# Altium schematic symbol library APM32F030K8T6核心板原理图库.SchLib: 7 symbols
Pins are listed as number, name and electrical type; pins without a type are passive.

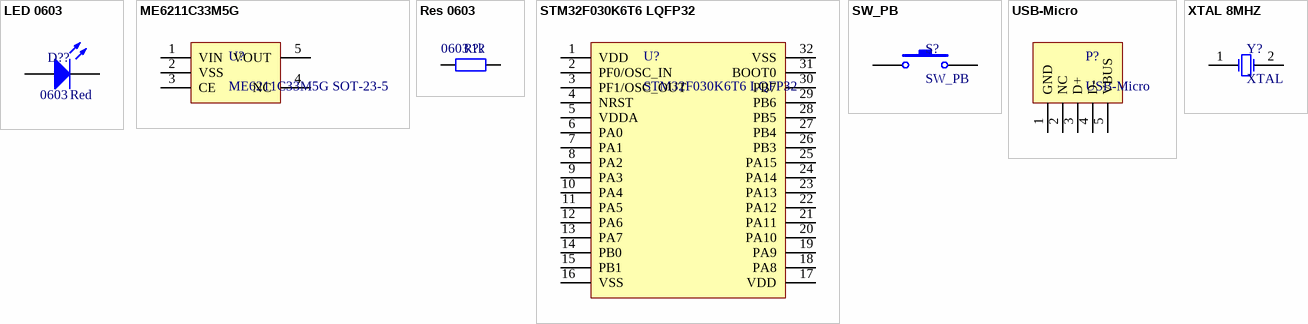
[diagram p0: symbols LED 0603 to XTAL 8MHZ]

## LED 0603
designator D??  value Red  Footprint: 0603  (hidden comment: LED 0603)
footprint 0603-LED-G
pins: 1 A, 2 K

## ME6211C33M5G
designator U?, comment ME6211C33M5G SOT-23-5
footprint SOT-23-5
pins: 1 VIN (power), 2 VSS (power), 3 CE (power), 4 NC (power), 5 VOUT (power)

## Res 0603
designator R??  value 1k  Footprint: 0603  (hidden comment: Res 0603)
Resistor 0603
footprint R0603-R/C-BY
pins: 1, 2

## STM32F030K6T6 LQFP32
designator U?
footprint QFP32_M (32-Pin Quad Flat Pack 0.8 mm Pitch, IPC Low Density)
pins: 1 VDD (power), 2 PF0/OSC_IN (power), 3 PF1/OSC_OUT (power), 4 NRST (power), 5 VDDA (power), 6 PA0 (power), 7 PA1 (power), 8 PA2 (power), 9 PA3 (power), 10 PA4 (power), 11 PA5 (power), 12 PA6 (power), 13 PA7 (power), 14 PB0 (power), 15 PB1 (power), 16 VSS (power), 17 VDD (power), 18 PA8 (power), 19 PA9 (power), 20 PA10 (power), 21 PA11 (power), 22 PA12 (power), 23 PA13 (power), 24 PA14 (power), 25 PA15 (power), 26 PB3 (power), 27 PB4 (power), 28 PB5 (power), 29 PB6 (power), 30 PB7 (power), 31 BOOT0 (power), 32 VSS (power)

## SW_PB
designator S?
footprint SW-2Pin
pins: 1, 2

## USB-Micro
designator P?
footprint USB Micro
pins: 1 GND (power), 2 NC (power), 3 D+ (power), 4 D- (power), 5 VBUS (power)

## XTAL 8MHZ
designator Y?, comment XTAL
XTAL 8MHZ
footprint XTAL_5032
pins: 1 OSC1, 2 OSC2